# Altium schematic symbol library ADN2817ACPZ-RL7.SchLib: 1 symbol
Pins are listed as number, name and electrical type; pins without a type are passive.

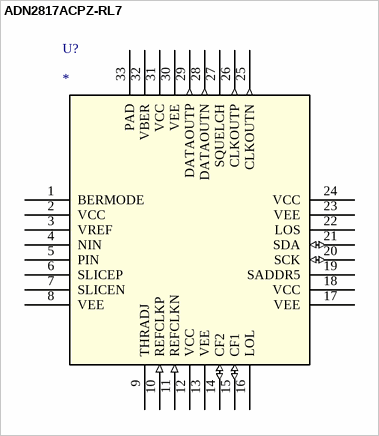
[diagram p0: symbol ADN2817ACPZ-RL7]

## ADN2817ACPZ-RL7
designator U?
No Description Available; Mfr_Name: Analog Devices Inc; RefDes: RefDes; Type: Type
footprint CP_32_11_ADI
pins: 1 BERMODE, 2 VCC (power), 3 VREF (power), 4 NIN, 5 PIN, 6 SLICEP, 7 SLICEN, 8 VEE (power), 9 THRADJ, 10 REFCLKP (in), 11 REFCLKN (in), 12 VCC (power), 13 VEE (power), 14 CF2 (io), 15 CF1 (io), 16 LOL, 17 VEE (power), 18 VCC (power), 19 SADDR5, 20 SCK (io), 21 SDA (io), 22 LOS, 23 VEE (power), 24 VCC (power), 25 CLKOUTN (out), 26 CLKOUTP (out), 27 SQUELCH, 28 DATAOUTN (out), 29 DATAOUTP (out), 30 VEE (power), 31 VCC (power), 32 VBER, 33 PAD (power)